# EAGLE library part AT45DB642D (library biomimetic)
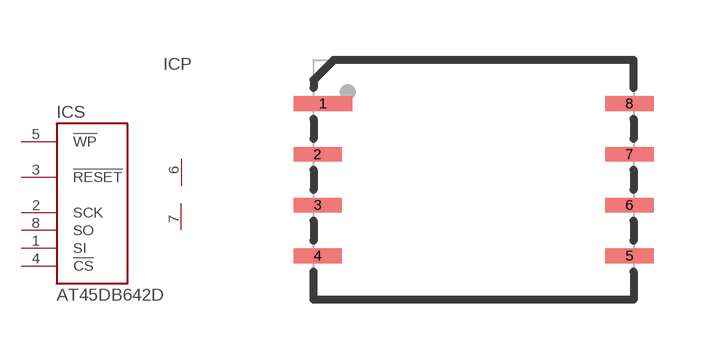
[diagram p8: symbol with the pads of CASON-8; footprint CASON-8]

Designator prefix IC; gates S=AT45DB642D P=V+-

## AT45DB642D-CNU  [CASON-8]
1  S:SI
2  S:SCK
3  S:!RESET
4  S:!CS
5  S:!WP
6  P:V+  pwr
7  P:V-  pwr
8  S:SO

## Footprint CASON-8 (pad centres in mm)
smd 1.473 x 0.369: 1 -3.764,1.905
smd 1.203 x 0.369: 2 -3.898,0.635; 3 -3.898,-0.635; 4 -3.898,-1.905; 5 3.898,-1.905; 6 3.898,-0.635; 7 3.898,0.635; 8 3.898,1.905